# EAGLE library part 53307-2071 (library molex_2020)
SlimStack SMT connector, female, board-to-board 10 pinm 0.8mm pitch, 3.65mm height
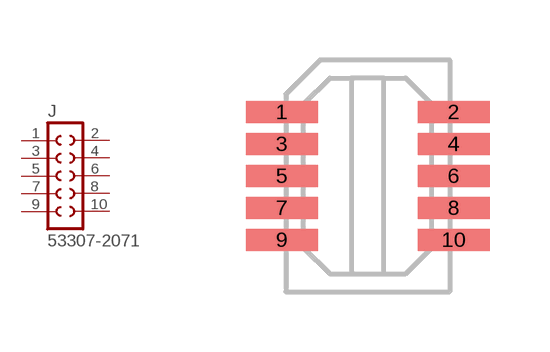
[diagram p3: symbol with the pads of 53307-1028; footprint 53307-1028]

Designator prefix J

## 53307-2071  [53307-1028]
1  1  pas
2  2  pas
3  3  pas
4  4  pas
5  5  pas
6  6  pas
7  7  pas
8  8  pas
9  9  pas
10  10  pas

## Footprint 53307-1028 (pad centres in mm)
smd 1.8 x 0.55: 1 -2.15,1.6; 2 2.15,1.6; 3 -2.15,0.8; 4 2.15,0.8; 5 -2.15,0; 6 2.15,0; 7 -2.15,-0.8; 8 2.15,-0.8; 9 -2.15,-1.6; 10 2.15,-1.6